# Altium schematic symbol library ADM3053-SO20W.SchLib: 1 symbol
Pins are listed as number, name and electrical type; pins without a type are passive.

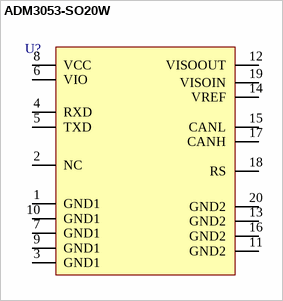
[diagram p0: symbol ADM3053-SO20W]

## ADM3053-SO20W
designator U?  (value not drawn)
footprint RW_20
pins: 1 GND1, 2 NC, 3 GND1, 4 RXD, 5 TXD, 6 VIO, 7 GND1, 8 VCC, 9 GND1, 10 GND1, 11 GND2, 12 VISOOUT, 13 GND2, 14 VREF, 15 CANL, 16 GND2, 17 CANH, 18 RS, 19 VISOIN, 20 GND2